# Altium footprint library SnapEDApcb.PcbLib: 2 footprints
Each footprint in its own frame and in the unit in brackets; x right, y up, seen from the top. Pads: shape width x height; smd on the part's side, far side on the other; paste and mask are expansions set on the pad; w line width, h text height; cw(c..) or ccw(c..) is an arc to the next point about the centre after c.
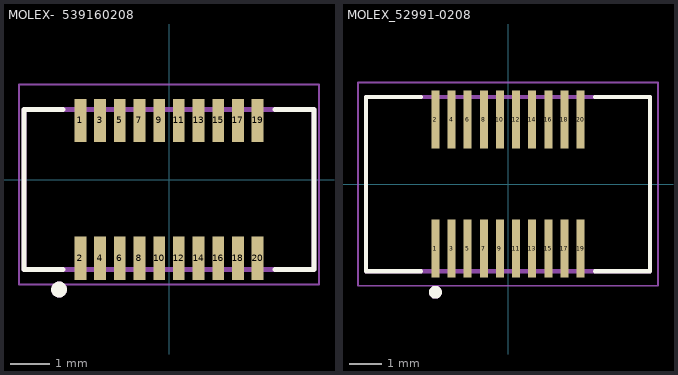
[diagram p0: the footprints below, top view; thin cyan lines are the x and y axes]

## MOLEX-  539160208 [mm]
pads (20):
  rect 0.3x1.1 smd: 1(-2.25,1.5) 2(-2.25,-2) 3(-1.75,1.5) 4(-1.75,-2) 5(-1.25,1.5) 6(-1.25,-2) 7(-0.75,1.5) 8(-0.75,-2) 9(-0.25,1.5) 10(-0.25,-2) 11(0.25,1.5) 12(0.25,-2) 13(0.75,1.5) 14(0.75,-2) 15(1.25,1.5) 16(1.25,-2) 17(1.75,1.5) 18(1.75,-2) 19(2.25,1.5) 20(2.25,-2)
Top Overlay:
  circle w0.2: c-2.794,-2.794 r0.1
  lines w0.127: -2.695,-2.286 -3.683,-2.286 -3.683,1.778 -2.695,1.778 ; 2.695,-2.286 3.683,-2.286 3.683,1.778 2.695,1.778
Mechanical 13:
  circle w0.2: c-2.794,-2.794 r0.1
  lines w0.127: -3.683,-2.286 -3.683,1.778 3.683,1.778 3.683,-2.286 -3.683,-2.286
Mechanical 15:
  lines w0.05: -3.81,-2.667 3.81,-2.667 3.81,2.413 -3.81,2.413 -3.81,-2.667
3D body "539160208.stp": height 3.46, standoff -0.03, extent -3.65,-2.304 3.65,1.796

## MOLEX_52991-0208 [mm]
pads (20):
  rect 0.25x1.8 smd: 1(-2.25,-2) 2(-2.25,2) 3(-1.75,-2) 4(-1.75,2) 5(-1.25,-2) 6(-1.25,2) 7(-0.75,-2) 8(-0.75,2) 9(-0.25,-2) 10(-0.25,2) 11(0.25,-2) 12(0.25,2) 13(0.75,-2) 14(0.75,2) 15(1.25,-2) 16(1.25,2) 17(1.75,-2) 18(1.75,2) 19(2.25,-2) 20(2.25,2)
Top Overlay:
  circle w0.2: c-2.25,-3.35 r0.1
  lines w0.127: -2.695,-2.7 -4.4,-2.7 -4.4,2.7 -2.695,2.7 ; 2.695,-2.7 4.4,-2.7 4.4,2.7 2.695,2.7
Mechanical 13:
  circle w0.2: c-2.25,-3.35 r0.1
  lines w0.127: -4.4,-2.7 -4.4,2.7 4.4,2.7 4.4,-2.7 -4.4,-2.7
Mechanical 15:
  lines w0.05: -4.65,-3.15 -4.65,3.15 4.65,3.15 4.65,-3.15 -4.65,-3.15
3D body "529910208.stp": height 2.28, standoff -0.02, extent -4.4,-2.7 4.4,2.7